# Altium footprint library RELAY.PcbLib: 23 footprints (part 2 of 2)
Each footprint in its own frame and in the unit in brackets; x right, y up, seen from the top. Pads: shape width x height; smd on the part's side, far side on the other; paste and mask are expansions set on the pad; w line width, h text height; cw(c..) or ccw(c..) is an arc to the next point about the centre after c.
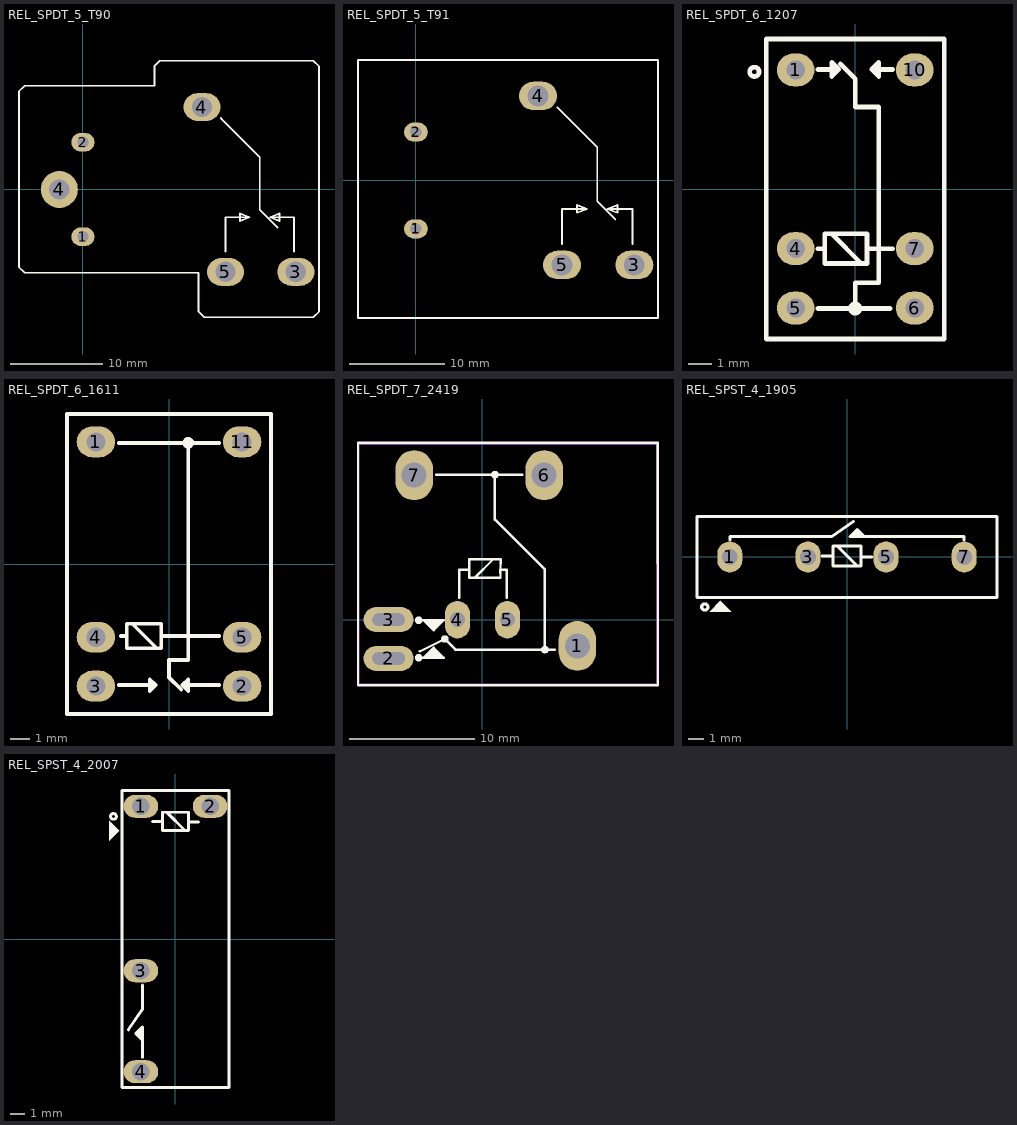
[diagram p1: the footprints below, top view; thin cyan lines are the x and y axes]

## REL_SPDT_5_T90 [mm] "Relay 32.5x27.6x20.5mm. 1C form"
height 21
pads (6):
  oval 2.5x2 hole 1.2: 1(0,-5.1) 2(0,5.1)
  oval 4x3 hole 2.2: 3(23,-8.9) 4(12.86,8.9) 5(15.4,-8.9)
  round 4 hole 2.2: 4(-2.54,0)
Top Overlay:
  lines w0.2: 14.9,7.7 19.1,3.5 19.1,-2.2 21,-4.1 ; 15.4,-6.7 15.4,-3 18,-3 ; 22.8,-6.7 22.8,-3 20.2,-3 ; 18,-3 16.97,-3.4 16.97,-2.6 18,-3 ; 20.2,-3 21.23,-2.6 21.23,-3.4 20.2,-3 ; -6.9,-8.4 -6.3,-9 12.493,-9 12.493,-13.2 13.093,-13.8 24.9,-13.8 25.5,-13.2 25.5,13.3 24.9,13.9 8.325,13.9 7.725,13.3 7.725,11.2 -6.3,11.2 -6.9,10.6 -6.9,-8.4
3D body "SW3dPS-relay_t90_spdt.STEP": height 21.42, standoff -5.93, extent -6.782,-13.717 25.425,13.792

## REL_SPDT_5_T91 [mm] "Relay 32.4x27.5x28mm. 1C form, T91, JQX-16F, MPQ2"
height 28
pads (5):
  oval 2.5x2 hole 1.2: 1(0,-5.1) 2(0,5.1)
  oval 4x3 hole 2.2: 3(23,-8.9) 4(12.86,8.9) 5(15.4,-8.9)
Top Overlay:
  lines w0.2: 14.9,7.7 19.1,3.5 19.1,-2.2 21,-4.1 ; 15.4,-6.7 15.4,-3 18,-3 ; 22.8,-6.7 22.8,-3 20.2,-3 ; 18,-3 16.97,-3.4 16.97,-2.6 18,-3 ; 20.2,-3 21.23,-2.6 21.23,-3.4 20.2,-3 ; -6.1,-14.5 25.5,-14.5 25.5,12.7 -6.1,12.7 -6.1,-14.5
3D body "NT90TNCE12CB.step": height 27.76, standoff -5.44, extent -6.05,-14.4 25.45,12.6

## REL_SPDT_6_1207 [mm] "RELAY, SPDT, 6P, 2.54mm pitch, 12.5X7.5mm, G5V-1, HRB"
pads (6):
  oval 1.6x1.4 hole 0.8: 1(-2.54,5.08) 4(-2.54,-2.54) 5(-2.54,-5.08) 6(2.54,-5.08) 7(2.54,-2.54) 10(2.54,5.08)
Top Overlay:
  circle w0.2: c-4.3,5 r0.2
  circle w0.2: c0,-5.1 r0.2
  lines w0.2: -1.6,-5.1 1.5,-5.1 ; -1.6,-2.544 -1.397,-2.544 ; -1.6,5.1 -0.7,5.1 ; -1.008,-1.909 0.262,-3.179 ; -0.635,5.335 0,4.7 0,3.5 1,3.5 1,-4 0,-4 0,-5.1 ; 0.5,-2.544 1.6,-2.544 ; 1.6,5.1 0.7,5.1 ; -0.7,5.1 -1,5.4 -1,4.8 -0.7,5.1 ; 0.7,5.1 1,4.8 1,5.4 0.7,5.1 ; -3.8,-6.4 3.8,-6.4 3.8,6.4 -3.8,6.4 -3.8,-6.4 ; -1.3,-3.179 0.5,-3.179 0.5,-1.909 -1.3,-1.909 -1.3,-3.179
3D body "User Library-G5V-1.step": height 10, standoff -3, extent -3.75,-6.25 3.75,6.25

## REL_SPDT_6_1611 [mm] "RELAY, SPDT, 15.7X11X12mm, HFD41, HK4100F, TRB"
height 12
pads (6):
  oval 2x1.6 hole 1: 1(-3.8,6.35) 2(3.8,-6.35) 3(-3.8,-6.35) 4(-3.8,-3.81) 5(3.8,-3.81) 11(3.8,6.35)
Top Overlay:
  circle w0.2: c1,6.3 r0.2
  lines w0.2: -2.6,-6.3 -0.7,-6.3 ; -2.6,6.3 2.6,6.3 ; -2.5,-3.744 -2.297,-3.744 ; -1.908,-3.109 -0.638,-4.379 ; -0.4,-3.744 2.6,-3.744 ; 0.635,-6.535 0,-5.9 0,-5 1,-5 1,6.3 ; 2.6,-6.3 0.7,-6.3 ; -0.7,-6.3 -1,-6 -1,-6.6 -0.7,-6.3 ; 0.7,-6.3 1,-6.6 1,-6 0.7,-6.3 ; -5.3,-7.8 -5.3,7.8 5.3,7.8 5.3,-7.8 -5.3,-7.8 ; -2.2,-4.379 -0.4,-4.379 -0.4,-3.109 -2.2,-3.109 -2.2,-4.379
3D body "User Library-HK4100F.step": height 11.81, standoff -2.75, extent -5.2,-7.7 5.2,7.7

## REL_SPDT_7_2419 [mm] "RELAY SPDT, 4119, 23.8X19.2mm, 4119 car Relay 40A"
pads (7):
  oval 3x4 hole 2: 1(7.6,-2.1) 6(4.95,11.55) 7(-5.45,11.55)
  oval 4x2 hole 1 slot 2.6 at 0 deg: 2(-7.5,-3.1) 3(-7.5,0)
  oval 2x3 hole 1.2: 4(-2,0) 5(2,0)
Top Overlay:
  circle w0.2: c1,11.6 r0.2
  circle w0.2: c5,-2.4 r0.2
  circle w0.2: c-3,-1.55 r0.2
  circle w0.2: c-5.1,-3.05 r0.2
  circle w0.2: c-5.1,-0.05 r0.2
  region: -3.1,-3.05 -4.7,-3.05 -3.9,-2.25
  region: -3.1,-0.05 -4.7,-0.05 -3.9,-0.85
  lines w0.2: -5.1,-3.05 -3.1,-3.05 -3.9,-2.25 -4.7,-3.05 ; -5.1,-0.05 -3.1,-0.05 -3.9,-0.85 -4.7,-0.05 ; -5,-2.55 -3,-1.55 -2.15,-2.4 5.8,-2.4 ; -3.7,11.6 3.2,11.6 ; -1.85,1.75 -1.85,4.007 -1.05,4.007 ; -0.581,3.381 0.869,4.831 ; 1,11.6 1,8 5,4 5,-2.4 ; 1.95,1.75 1.95,4.007 1.45,4.007 ; 1.45,4.007 1.45,3.35 -1.05,3.35 -1.05,4.85 1.45,4.85 1.45,4.007 ; -9.95,-5.25 -9.95,14.15 14.05,14.15 14.05,-5.25 -9.95,-5.25
Mechanical 13:
  lines w0.1: -9.85,-5.15 -9.85,14.049 13.949,14.049 13.949,-5.15 -9.85,-5.15
3D body: height 0, standoff -4, extent -6.4,10.6 -4.5,12.5
3D body: height 0, standoff -4, extent 4,10.6 5.9,12.5
3D body: height 0, standoff -4, extent 1.5,-0.499 2.5,0.5
3D body: height 0, standoff -4, extent -2.4,-0.5 -1.4,0.499
3D body: height 0, standoff -4, extent 6.65,-3.05 8.55,-1.15
3D body: height 0, standoff -4, extent -8.55,-3.55 -6.5,-2.65
3D body: height 20, standoff 0, extent -9.85,-5.15 13.949,14.049
3D body: height 0, standoff -4, extent -8.55,-0.45 -6.5,0.45

## REL_SPST_4_1905 [mm] "RELAY, SPST, 19X5X7.4mm, S1A05,"
height 7.4
pads (4):
  oval 1.6x2 hole 1: 1(-7.5,0) 3(-2.5,0) 5(2.5,0) 7(7.5,0)
Top Overlay:
  circle w0.2: c-9.1,-3.2 r0.2
  region: 0.2,1.3 1.1,1.3 0.65,1.75
  region: -8.8,-3.5 -7.4,-3.5 -8.1,-2.8
  lines w0.2: -7.5,1.1 -7.5,1.3 -1,1.3 0.396,2.26 ; -1.6,0.056 -0.997,0.056 ; -0.608,0.691 0.662,-0.579 ; 0.9,0 1.6,0 ; 7.5,1.1 7.5,1.3 7.5,1.3 1.1,1.3 ; 1.1,1.3 0.2,1.3 0.2,1.3 0.65,1.75 1.1,1.3 ; -9.6,-2.6 -9.6,2.6 9.6,2.6 9.6,-2.6 -9.6,-2.6 ; -0.9,-0.579 -0.9,0.691 0.9,0.691 0.9,-0.579 -0.9,-0.579
3D body: height 7.4, standoff 0, extent -9.5,-2.5 9.5,2.5
3D body: height 0, standoff -3.6, extent -7.75,-0.25 -7.25,0.25
3D body: height 0, standoff -3.6, extent -2.75,-0.25 -2.25,0.25
3D body: height 0, standoff -3.6, extent 2.25,-0.25 2.75,0.25
3D body: height 0, standoff -3.6, extent 7.25,-0.25 7.75,0.25

## REL_SPST_4_2007 [mm] "RELAY, SPST, 20.5X7.2X15mm"
height 15
pads (4):
  oval 2.4x1.6 hole 1.2: 1(-2.4,9.2) 2(2.4,9.2) 3(-2.4,-2.2) 4(-2.4,-9.2)
Top Overlay:
  circle w0.2: c-4.3,8.5 r0.2
  region: -2.3,-6.1 -2.3,-7 -2.75,-6.55
  region: -4.6,8.2 -4.6,6.8 -3.9,7.5
  lines w0.2: -3.26,-6.296 -2.3,-4.9 -2.3,-3.2 ; -2.3,-8.2 -2.3,-7 ; -1.6,8.156 -0.997,8.156 ; -0.608,8.791 0.662,7.521 ; 0.9,8.1 1.6,8.1 ; -2.3,-7 -2.3,-6.1 ; -2.3,-7 -2.75,-6.55 -2.3,-6.1 ; -2.3,-6.1 -2.3,-6.1 ; -3.7,-10.3 -3.7,10.3 3.7,10.3 3.7,-10.3 -3.7,-10.3 ; -0.9,7.521 -0.9,8.791 0.9,8.791 0.9,7.521 -0.9,7.521
3D body: height 0, standoff -3.6, extent -2.65,-9.45 -2.15,-8.95
3D body: height 0, standoff -3.6, extent -2.65,-2.45 -2.15,-1.95
3D body: height 0, standoff -3.6, extent 2.15,8.95 2.65,9.45
3D body: height 0, standoff -3.6, extent -2.65,8.95 -2.15,9.45
3D body: height 15, standoff 0, extent -3.6,-10.2 3.6,10.2